# EAGLE library part MCP14A0454 (library TRN_Open_Servo)
MCP14A0454 The MCP14A0453/4/5 devices are high-speed dual MOSFET drivers that are capable of providing up to 4.5A of peak current while operating from a single 4.5V to 18V supply. There are three output configurations available: dual inverting (MCP14A0453), dual noninverting (MCP14A0454) and complementary (MCP14A0455). These devices feature low shoot-through current, matched rise and fall times, and short propagation delays, which make them ideal for high switching frequency applications.
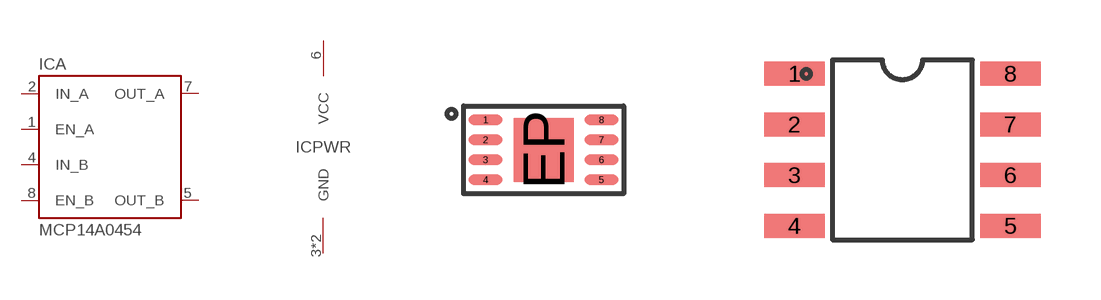
[diagram p2: symbol with the pads of TDFN-8-EP; footprints TDFN-8-EP, SOIC-8]

Designator prefix IC; gates A=MCP14A0454 PWR=PWR

## MCP14A0454MNY  [TDFN-8-EP]
1  A:EN_A  in
2  A:IN_A  in
3  PWR:GND  pwr
4  A:IN_B  in
5  A:OUT_B  out
6  PWR:VCC  pwr
7  A:OUT_A  out
8  A:EN_B  in
EP  PWR:GND  pwr

## MCP14A0454SN  [SOIC-8]
1  A:EN_A  in
2  A:IN_A  in
3  PWR:GND  pwr
4  A:IN_B  in
5  A:OUT_B  out
6  PWR:VCC  pwr
7  A:OUT_A  out
8  A:EN_B  in

## MCP14A0454MS  [MSOP-8]
Pads as for SOIC-8

## Footprint TDFN-8-EP (pad centres in mm)
8-Lead Plastic Dual Flat, No Lead Package (MNY) – 2x3x0.8 mm Body [TDFN]
smd 0.85 x 0.25: 1 -1.45,0.75; 2 -1.45,0.25; 3 -1.45,-0.25; 4 -1.45,-0.75; 5 1.45,-0.75; 6 1.45,-0.25; 7 1.45,0.25; 8 1.45,0.75
smd 1.5 x 1.6: EP 0,0

## Footprint SOIC-8 (pad centres in mm)
8-Lead Plastic Small Outline (SN) - Narrow, 3.90 mm Body [SOIC]
smd 1.55 x 0.6: 1 -2.7,1.905; 2 -2.7,0.635; 3 -2.7,-0.635; 4 -2.7,-1.905; 5 2.7,-1.905; 6 2.7,-0.635; 7 2.7,0.635; 8 2.7,1.905

## Footprint MSOP-8 (pad centres in mm)
8-Lead Plastic Micro Small Outline Package (MS) [MSOP]
smd 1.45 x 0.45: 1 -2.2,0.975; 2 -2.2,0.325; 3 -2.2,-0.325; 4 -2.2,-0.975; 5 2.2,-0.975; 6 2.2,-0.325; 7 2.2,0.325; 8 2.2,0.975